# Altium schematic symbol library MB525.SchLib: 17 symbols
Pins are listed as number, name and electrical type; pins without a type are passive.

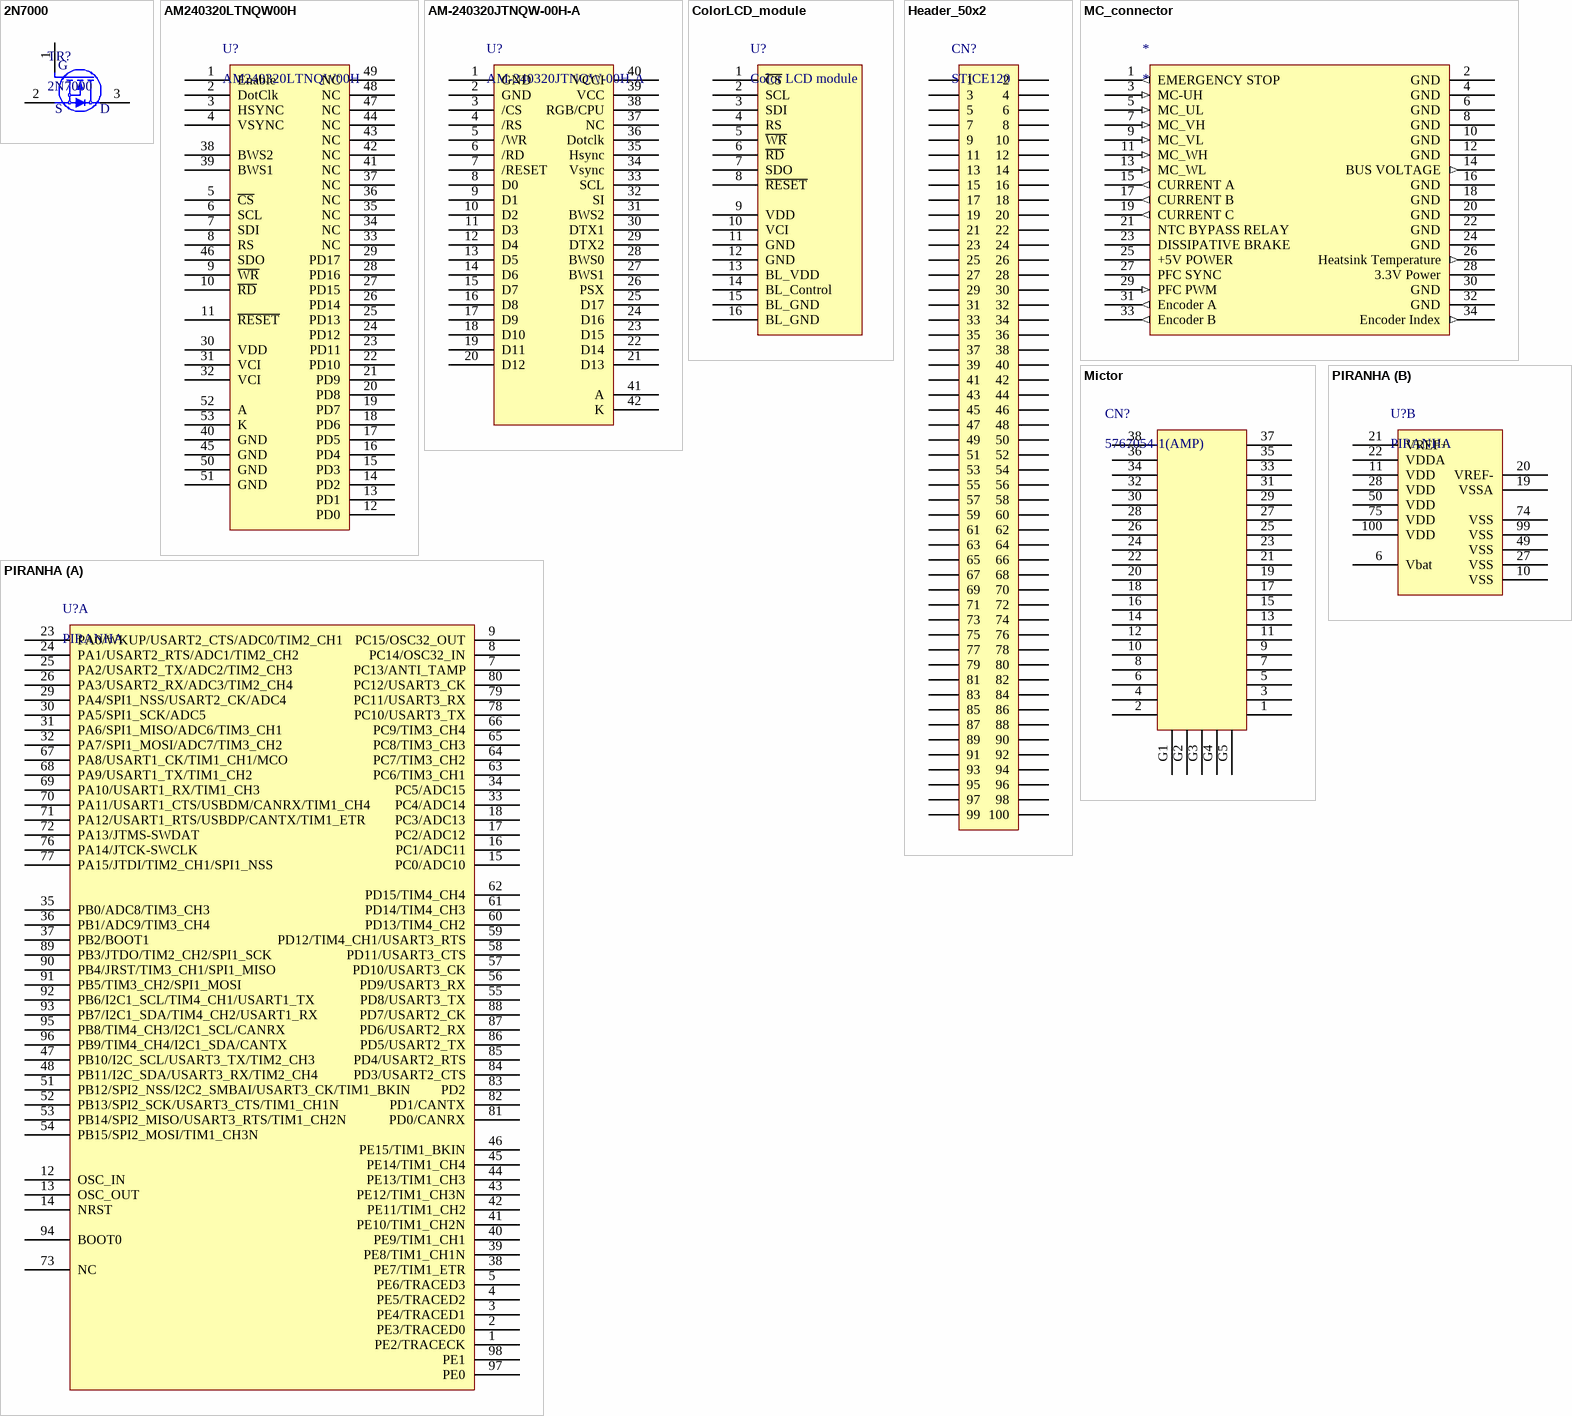
[diagram p0: symbols 2N7000 to PIRANHA]

## 2N7000
designator TR?
footprint SOT23-3L (Footprint not found)
pins: 1 G, 2 S, 3 D

## AM240320LTNQW00H
designator U?
pins: 1 Enable, 2 DotClk, 3 HSYNC, 4 VSYNC, 5 ~{CS}, 6 SCL, 7 SDI, 8 RS, 9 ~{WR}, 10 ~{RD}, 11 ~{RESET}, 12 PD0, 13 PD1, 14 PD2, 15 PD3, 16 PD4, 17 PD5, 18 PD6, 19 PD7, 20 PD8, 21 PD9, 22 PD10, 23 PD11, 24 PD12, 25 PD13, 26 PD14, 27 PD15, 28 PD16, 29 PD17, 30 VDD, 31 VCI, 32 VCI, 33 NC, 34 NC, 35 NC, 36 NC, 37 NC, 38 BWS2, 39 BWS1, 40 GND, 41 NC, 42 NC, 43 NC, 44 NC, 45 GND, 46 SDO, 47 NC, 48 NC, 49 NC, 50 GND, 51 GND, 52 A, 53 K

## AM-240320JTNQW-00H-A
designator U?
pins: 1 GND, 2 GND, 3 /CS, 4 /RS, 5 /WR, 6 /RD, 7 /RESET, 8 D0, 9 D1, 10 D2, 11 D3, 12 D4, 13 D5, 14 D6, 15 D7, 16 D8, 17 D9, 18 D10, 19 D11, 20 D12, 21 D13, 22 D14, 23 D15, 24 D16, 25 D17, 26 PSX, 27 BWS1, 28 BWS0, 29 DTX2, 30 DTX1, 31 BWS2, 32 SI, 33 SCL, 34 Vsync, 35 Hsync, 36 Dotclk, 37 NC, 38 RGB/CPU, 39 VCC, 40 VCCI, 41 A, 42 K

## ColorLCD_module
designator U?, comment Color LCD module
pins: 1 ~{CS}, 2 SCL, 3 SDI, 4 RS, 5 ~{WR}, 6 ~{RD}, 7 SDO, 8 ~{RESET}, 9 VDD, 10 VCI, 11 GND, 12 GND, 13 BL_VDD, 14 BL_Control, 15 BL_GND, 16 BL_GND

## Header_50x2
designator CN?, comment STICE120
pins: 1, 2, 3, 4, 5, 6, 7, 8, 9, 10, 11, 12, 13, 14, 15, 16, 17, 18, 19, 20, 21, 22, 23, 24, 25, 26, 27, 28, 29, 30, 31, 32, 33, 34, 35, 36, 37, 38, 39, 40, 41, 42, 43, 44, 45, 46, 47, 48, 49, 50, 51, 52, 53, 54, 55, 56, 57, 58, 59, 60, 61, 62, 63, 64, 65, 66, 67, 68, 69, 70, 71, 72, 73, 74, 75, 76, 77, 78, 79, 80, 81, 82, 83, 84, 85, 86, 87, 88, 89, 90, 91, 92, 93, 94, 95, 96, 97, 98, 99, 100

## MC_connector
designator *
pins: 1 EMERGENCY STOP (out), 2 GND (power), 3 MC-UH (in), 4 GND (power), 5 MC_UL (in), 6 GND (power), 7 MC_VH (in), 8 GND (power), 9 MC_VL (in), 10 GND (power), 11 MC_WH (in), 12 GND (power), 13 MC_WL (in), 14 BUS VOLTAGE (out), 15 CURRENT A (out), 16 GND (power), 17 CURRENT B (out), 18 GND (power), 19 CURRENT C (out), 20 GND (power), 21 NTC BYPASS RELAY, 22 GND (power), 23 DISSIPATIVE BRAKE, 24 GND (power), 25 +5V POWER (power), 26 Heatsink Temperature (out), 27 PFC SYNC, 28 3.3V Power (power), 29 PFC PWM (in), 30 GND (power), 31 Encoder A (out), 32 GND (power), 33 Encoder B (out), 34 Encoder Index (out)

## Mictor
designator CN?, comment 5767054-1(AMP)
pins: 1, 2, 3, 4, 5, 6, 7, 8, 9, 10, 11, 12, 13, 14, 15, 16, 17, 18, 19, 20, 21, 22, 23, 24, 25, 26, 27, 28, 29, 30, 31, 32, 33, 34, 35, 36, 37, 38, G1, G2, G3, G4, G5

## PIRANHA
designator U?
part A pins: 1 PE2/TRACECK, 2 PE3/TRACED0, 3 PE4/TRACED1, 4 PE5/TRACED2, 5 PE6/TRACED3, 7 PC13/ANTI_TAMP, 8 PC14/OSC32_IN, 9 PC15/OSC32_OUT, 12 OSC_IN, 13 OSC_OUT, 14 NRST, 15 PC0/ADC10, 16 PC1/ADC11, 17 PC2/ADC12, 18 PC3/ADC13, 23 PA0/WKUP/USART2_CTS/ADC0/TIM2_CH1, 24 PA1/USART2_RTS/ADC1/TIM2_CH2, 25 PA2/USART2_TX/ADC2/TIM2_CH3, 26 PA3/USART2_RX/ADC3/TIM2_CH4, 29 PA4/SPI1_NSS/USART2_CK/ADC4, 30 PA5/SPI1_SCK/ADC5, 31 PA6/SPI1_MISO/ADC6/TIM3_CH1, 32 PA7/SPI1_MOSI/ADC7/TIM3_CH2, 33 PC4/ADC14, 34 PC5/ADC15, 35 PB0/ADC8/TIM3_CH3, 36 PB1/ADC9/TIM3_CH4, 37 PB2/BOOT1, 38 PE7/TIM1_ETR, 39 PE8/TIM1_CH1N, 40 PE9/TIM1_CH1, 41 PE10/TIM1_CH2N, 42 PE11/TIM1_CH2, 43 PE12/TIM1_CH3N, 44 PE13/TIM1_CH3, 45 PE14/TIM1_CH4, 46 PE15/TIM1_BKIN, 47 PB10/I2C_SCL/USART3_TX/TIM2_CH3, 48 PB11/I2C_SDA/USART3_RX/TIM2_CH4, 51 PB12/SPI2_NSS/I2C2_SMBAI/USART3_CK/TIM1_BKIN, 52 PB13/SPI2_SCK/USART3_CTS/TIM1_CH1N, 53 PB14/SPI2_MISO/USART3_RTS/TIM1_CH2N, 54 PB15/SPI2_MOSI/TIM1_CH3N, 55 PD8/USART3_TX, 56 PD9/USART3_RX, 57 PD10/USART3_CK, 58 PD11/USART3_CTS, 59 PD12/TIM4_CH1/USART3_RTS, 60 PD13/TIM4_CH2, 61 PD14/TIM4_CH3, 62 PD15/TIM4_CH4, 63 PC6/TIM3_CH1, 64 PC7/TIM3_CH2, 65 PC8/TIM3_CH3, 66 PC9/TIM3_CH4, 67 PA8/USART1_CK/TIM1_CH1/MCO, 68 PA9/USART1_TX/TIM1_CH2, 69 PA10/USART1_RX/TIM1_CH3, 70 PA11/USART1_CTS/USBDM/CANRX/TIM1_CH4, 71 PA12/USART1_RTS/USBDP/CANTX/TIM1_ETR, 72 PA13/JTMS-SWDAT, 73 NC, 76 PA14/JTCK-SWCLK, 77 PA15/JTDI/TIM2_CH1/SPI1_NSS, 78 PC10/USART3_TX, 79 PC11/USART3_RX, 80 PC12/USART3_CK, 81 PD0/CANRX, 82 PD1/CANTX, 83 PD2, 84 PD3/USART2_CTS, 85 PD4/USART2_RTS, 86 PD5/USART2_TX, 87 PD6/USART2_RX, 88 PD7/USART2_CK, 89 PB3/JTDO/TIM2_CH2/SPI1_SCK, 90 PB4/JRST/TIM3_CH1/SPI1_MISO, 91 PB5/TIM3_CH2/SPI1_MOSI, 92 PB6/I2C1_SCL/TIM4_CH1/USART1_TX, 93 PB7/I2C1_SDA/TIM4_CH2/USART1_RX, 94 BOOT0, 95 PB8/TIM4_CH3/I2C1_SCL/CANRX, 96 PB9/TIM4_CH4/I2C1_SDA/CANTX, 97 PE0, 98 PE1
part B pins: 6 Vbat, 10 VSS, 11 VDD, 19 VSSA, 20 VREF-, 21 VREF+, 22 VDDA, 27 VSS, 28 VDD, 49 VSS, 50 VDD, 74 VSS, 75 VDD, 99 VSS, 100 VDD

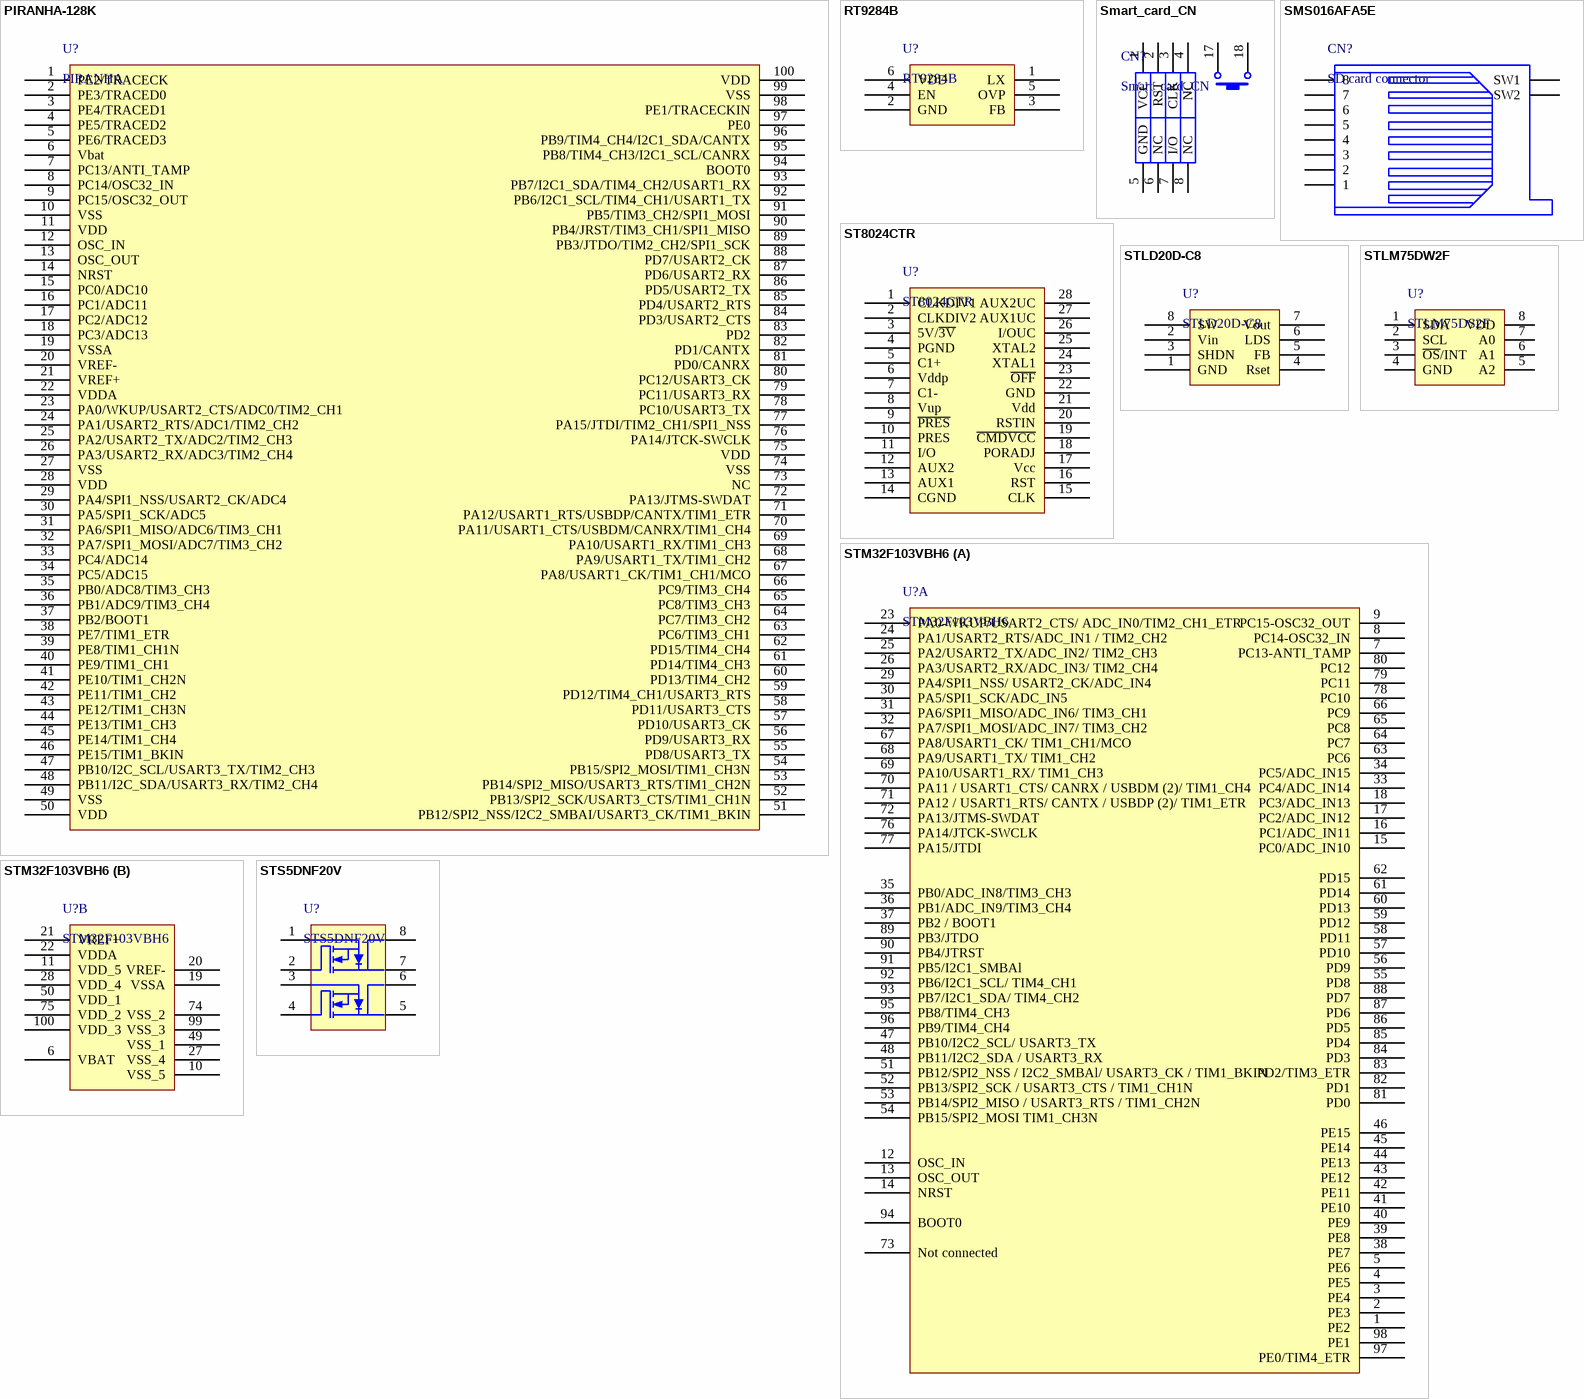
[diagram p1: symbols PIRANHA-128K to STS5DNF20V]

## PIRANHA-128K
designator U?, comment PIRANHA
footprint TQFP100 (Footprint not found)
pins: 1 PE2/TRACECK, 2 PE3/TRACED0, 3 PE4/TRACED1, 4 PE5/TRACED2, 5 PE6/TRACED3, 6 Vbat, 7 PC13/ANTI_TAMP, 8 PC14/OSC32_IN, 9 PC15/OSC32_OUT, 10 VSS, 11 VDD, 12 OSC_IN, 13 OSC_OUT, 14 NRST, 15 PC0/ADC10, 16 PC1/ADC11, 17 PC2/ADC12, 18 PC3/ADC13, 19 VSSA, 20 VREF-, 21 VREF+, 22 VDDA, 23 PA0/WKUP/USART2_CTS/ADC0/TIM2_CH1, 24 PA1/USART2_RTS/ADC1/TIM2_CH2, 25 PA2/USART2_TX/ADC2/TIM2_CH3, 26 PA3/USART2_RX/ADC3/TIM2_CH4, 27 VSS, 28 VDD, 29 PA4/SPI1_NSS/USART2_CK/ADC4, 30 PA5/SPI1_SCK/ADC5, 31 PA6/SPI1_MISO/ADC6/TIM3_CH1, 32 PA7/SPI1_MOSI/ADC7/TIM3_CH2, 33 PC4/ADC14, 34 PC5/ADC15, 35 PB0/ADC8/TIM3_CH3, 36 PB1/ADC9/TIM3_CH4, 37 PB2/BOOT1, 38 PE7/TIM1_ETR, 39 PE8/TIM1_CH1N, 40 PE9/TIM1_CH1, 41 PE10/TIM1_CH2N, 42 PE11/TIM1_CH2, 43 PE12/TIM1_CH3N, 44 PE13/TIM1_CH3, 45 PE14/TIM1_CH4, 46 PE15/TIM1_BKIN, 47 PB10/I2C_SCL/USART3_TX/TIM2_CH3, 48 PB11/I2C_SDA/USART3_RX/TIM2_CH4, 49 VSS, 50 VDD, 51 PB12/SPI2_NSS/I2C2_SMBAI/USART3_CK/TIM1_BKIN, 52 PB13/SPI2_SCK/USART3_CTS/TIM1_CH1N, 53 PB14/SPI2_MISO/USART3_RTS/TIM1_CH2N, 54 PB15/SPI2_MOSI/TIM1_CH3N, 55 PD8/USART3_TX, 56 PD9/USART3_RX, 57 PD10/USART3_CK, 58 PD11/USART3_CTS, 59 PD12/TIM4_CH1/USART3_RTS, 60 PD13/TIM4_CH2, 61 PD14/TIM4_CH3, 62 PD15/TIM4_CH4, 63 PC6/TIM3_CH1, 64 PC7/TIM3_CH2, 65 PC8/TIM3_CH3, 66 PC9/TIM3_CH4, 67 PA8/USART1_CK/TIM1_CH1/MCO, 68 PA9/USART1_TX/TIM1_CH2, 69 PA10/USART1_RX/TIM1_CH3, 70 PA11/USART1_CTS/USBDM/CANRX/TIM1_CH4, 71 PA12/USART1_RTS/USBDP/CANTX/TIM1_ETR, 72 PA13/JTMS-SWDAT, 73 NC, 74 VSS, 75 VDD, 76 PA14/JTCK-SWCLK, 77 PA15/JTDI/TIM2_CH1/SPI1_NSS, 78 PC10/USART3_TX, 79 PC11/USART3_RX, 80 PC12/USART3_CK, 81 PD0/CANRX, 82 PD1/CANTX, 83 PD2, 84 PD3/USART2_CTS, 85 PD4/USART2_RTS, 86 PD5/USART2_TX, 87 PD6/USART2_RX, 88 PD7/USART2_CK, 89 PB3/JTDO/TIM2_CH2/SPI1_SCK, 90 PB4/JRST/TIM3_CH1/SPI1_MISO, 91 PB5/TIM3_CH2/SPI1_MOSI, 92 PB6/I2C1_SCL/TIM4_CH1/USART1_TX, 93 PB7/I2C1_SDA/TIM4_CH2/USART1_RX, 94 BOOT0, 95 PB8/TIM4_CH3/I2C1_SCL/CANRX, 96 PB9/TIM4_CH4/I2C1_SDA/CANTX, 97 PE0, 98 PE1/TRACECKIN, 99 VSS, 100 VDD

## RT9284B
designator U?
footprint TSOT-23-6 (Footprint not found)
pins: 1 LX, 2 GND, 3 FB, 4 EN, 5 OVP, 6 VDD

## Smart_card_CN
designator CN?
pins: 1 VCC, 2 RST, 3 CLK, 4 NC, 5 GND, 6 NC, 7 I/O, 8 NC, 17, 18

## SMS016AFA5E
designator CN?, comment SD card connector
pins: 1, 2, 3, 4, 5, 6, 7, 8, 9 SW2, 9 SW1

## ST8024CTR
designator U?
footprint TSSOP28 (Footprint not found)
pins: 1 CLKDIV1, 2 CLKDIV2, 3 5V/~{3V}, 4 PGND, 5 C1+, 6 Vddp, 7 C1-, 8 Vup, 9 ~{PRES}, 10 PRES, 11 I/O, 12 AUX2, 13 AUX1, 14 CGND, 15 CLK, 16 RST, 17 Vcc, 18 PORADJ, 19 ~{CMDVCC}, 20 RSTIN, 21 Vdd, 22 GND, 23 ~{OFF}, 24 XTAL1, 25 XTAL2, 26 I/OUC, 27 AUX1UC, 28 AUX2UC

## STLD20D-C8
designator U?
footprint SOT23-8L (Footprint not found)
pins: 1 GND, 2 Vin, 3 SHDN, 4 Rset, 5 FB, 6 LDS, 7 Vout, 8 SW

## STLM75DW2F
designator U?, comment STLM75DS2F
footprint TSSOP8 (Footprint not found)
pins: 1 SDA, 2 SCL, 3 ~{OS}/INT, 4 GND, 5 A2, 6 A1, 7 A0, 8 VDD

## STM32F103VBH6
designator U?
part A pins: 1 PE2, 2 PE3, 3 PE4, 4 PE5, 5 PE6, 7 PC13-ANTI_TAMP, 8 PC14-OSC32_IN, 9 PC15-OSC32_OUT, 12 OSC_IN, 13 OSC_OUT, 14 NRST, 15 PC0/ADC_IN10, 16 PC1/ADC_IN11, 17 PC2/ADC_IN12, 18 PC3/ADC_IN13, 23 PA0-WKUP/USART2_CTS/
ADC_IN0/TIM2_CH1_ETR, 24 PA1/USART2_RTS/ADC_IN1
/
TIM2_CH2, 25 PA2/USART2_TX/ADC_IN2/
TIM2_CH3, 26 PA3/USART2_RX/ADC_IN3/
TIM2_CH4, 29 PA4/SPI1_NSS/
USART2_CK/ADC_IN4, 30 PA5/SPI1_SCK/ADC_IN5, 31 PA6/SPI1_MISO/ADC_IN6/
TIM3_CH1, 32 PA7/SPI1_MOSI/ADC_IN7/
TIM3_CH2, 33 PC4/ADC_IN14, 34 PC5/ADC_IN15, 35 PB0/ADC_IN8/TIM3_CH3, 36 PB1/ADC_IN9/TIM3_CH4, 37 PB2 / BOOT1, 38 PE7, 39 PE8, 40 PE9, 41 PE10, 42 PE11, 43 PE12, 44 PE13, 45 PE14, 46 PE15, 47 PB10/I2C2_SCL/
USART3_TX, 48 PB11/I2C2_SDA /
USART3_RX, 51 PB12/SPI2_NSS /
I2C2_SMBAl/
USART3_CK /
TIM1_BKIN, 52 PB13/SPI2_SCK /
USART3_CTS /
TIM1_CH1N, 53 PB14/SPI2_MISO /
USART3_RTS /
TIM1_CH2N, 54 PB15/SPI2_MOSI
TIM1_CH3N, 55 PD8, 56 PD9, 57 PD10, 58 PD11, 59 PD12, 60 PD13, 61 PD14, 62 PD15, 63 PC6, 64 PC7, 65 PC8, 66 PC9, 67 PA8/USART1_CK/
TIM1_CH1/MCO, 68 PA9/USART1_TX/
TIM1_CH2, 69 PA10/USART1_RX/
TIM1_CH3, 70 PA11 / USART1_CTS/
CANRX / USBDM (2)/
TIM1_CH4, 71 PA12 / USART1_RTS/
CANTX / USBDP (2)/
TIM1_ETR, 72 PA13/JTMS-SWDAT, 73 Not connected, 76 PA14/JTCK-SWCLK, 77 PA15/JTDI, 78 PC10, 79 PC11, 80 PC12, 81 PD0, 82 PD1, 83 PD2/TIM3_ETR, 84 PD3, 85 PD4, 86 PD5, 87 PD6, 88 PD7, 89 PB3/JTDO, 90 PB4/JTRST, 91 PB5/I2C1_SMBAl, 92 PB6/I2C1_SCL/
TIM4_CH1, 93 PB7/I2C1_SDA/
TIM4_CH2, 94 BOOT0, 95 PB8/TIM4_CH3, 96 PB9/TIM4_CH4, 97 PE0/TIM4_ETR, 98 PE1
part B pins: 6 VBAT, 10 VSS_5, 11 VDD_5, 19 VSSA, 20 VREF-, 21 VREF+, 22 VDDA, 27 VSS_4, 28 VDD_4, 49 VSS_1, 50 VDD_1, 74 VSS_2, 75 VDD_2, 99 VSS_3, 100 VDD_3

## STS5DNF20V
designator U?
pins: 1 S1, 2 G1, 3 S2, 4 G2, 5 D2, 6 D2, 7 D1, 8 D1